# EAGLE library part CY8C3246LTI-125 (library NicksParts)
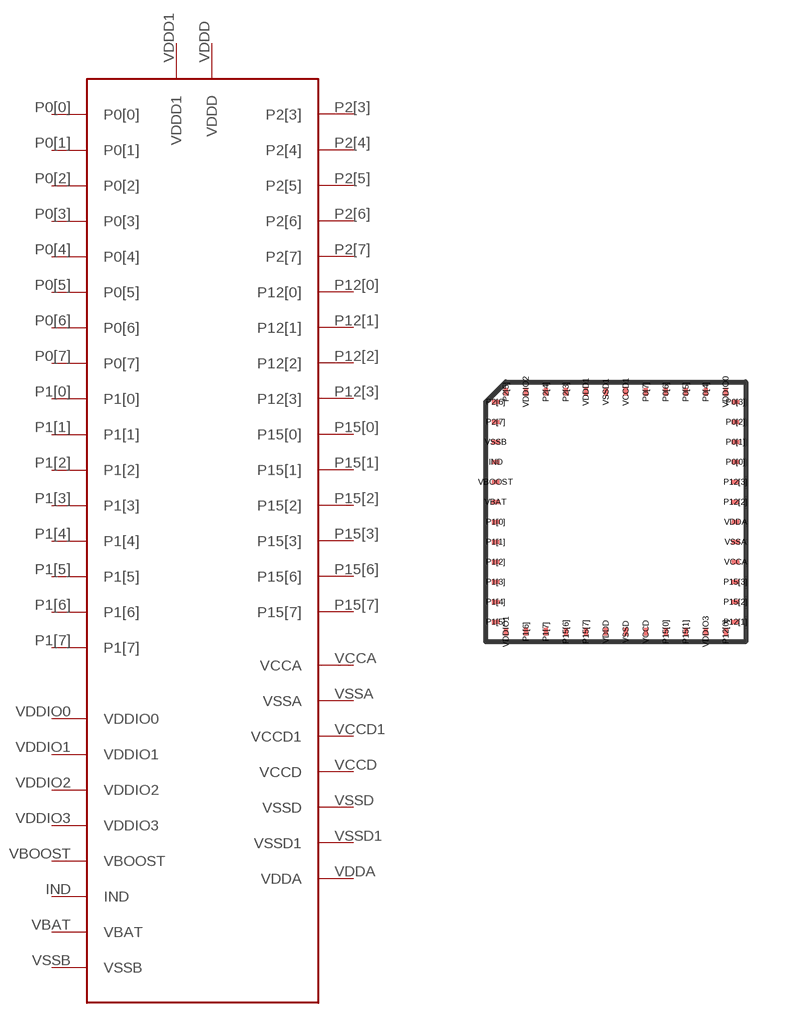
[diagram p1: symbol with the pads of 48QFN; footprint 48QFN]

Designator prefix -

## CY8C3246LTI-125  [48QFN]
IND  IND
P0[0]  P0[0]
P0[1]  P0[1]
P0[2]  P0[2]
P0[3]  P0[3]
P0[4]  P0[4]
P0[5]  P0[5]
P0[6]  P0[6]
P0[7]  P0[7]
P1[0]  P1[0]
P1[1]  P1[1]
P1[2]  P1[2]
P1[3]  P1[3]
P1[4]  P1[4]
P1[5]  P1[5]
P1[6]  P1[6]
P1[7]  P1[7]
P2[3]  P2[3]
P2[4]  P2[4]
P2[5]  P2[5]
P2[6]  P2[6]
P2[7]  P2[7]
P12[0]  P12[0]
P12[1]  P12[1]
P12[2]  P12[2]
P12[3]  P12[3]
P15[0]  P15[0]
P15[1]  P15[1]
P15[2]  P15[2]
P15[3]  P15[3]
P15[6]  P15[6]
P15[7]  P15[7]
VBAT  VBAT
VBOOST  VBOOST
VCCA  VCCA
VCCD  VCCD
VCCD1  VCCD1
VDDA  VDDA
VDDD  VDDD
VDDD1  VDDD1
VDDIO0  VDDIO0
VDDIO1  VDDIO1
VDDIO2  VDDIO2
VDDIO3  VDDIO3
VSSA  VSSA
VSSB  VSSB
VSSD  VSSD
VSSD1  VSSD1

## Footprint 48QFN (pad centres in mm)
smd 0.19 x 0.1: IND -3,1.25; P0[0] 3,1.25; P0[1] 3,1.75; P0[2] 3,2.25; P0[3] 3,2.75; P1[0] -3,-0.25; P1[1] -3,-0.75; P1[2] -3,-1.25; P1[3] -3,-1.75; P1[4] -3,-2.25; P1[5] -3,-2.75; P2[6] -3,2.75; P2[7] -3,2.25; P12[1] 3,-2.75; P12[2] 3,0.25; P12[3] 3,0.75; P15[2] 3,-2.25; P15[3] 3,-1.75; VBAT -3,0.25; VBOOST -3,0.75; VCCA 3,-1.25; VDDA 3,-0.25; VSSA 3,-0.75; VSSB -3,1.75
smd 0.1 x 0.19: P0[4] 2.25,3; P0[5] 1.75,3; P0[6] 1.25,3; P0[7] 0.75,3; P1[6] -2.25,-3; P1[7] -1.75,-3; P2[3] -1.25,3; P2[4] -1.75,3; P2[5] -2.75,3; P12[0] 2.75,-3; P15[0] 1.25,-3; P15[1] 1.75,-3; P15[6] -1.25,-3; P15[7] -0.75,-3; VCCD 0.75,-3; VCCD1 0.25,3; VDDD -0.25,-3; VDDD1 -0.75,3; VDDIO0 2.75,3; VDDIO1 -2.75,-3; VDDIO2 -2.25,3; VDDIO3 2.25,-3; VSSD 0.25,-3; VSSD1 -0.25,3